# Altium schematic symbol library ARDUINO.SchLib: 5 symbols
Pins are listed as number, name and electrical type; pins without a type are passive.

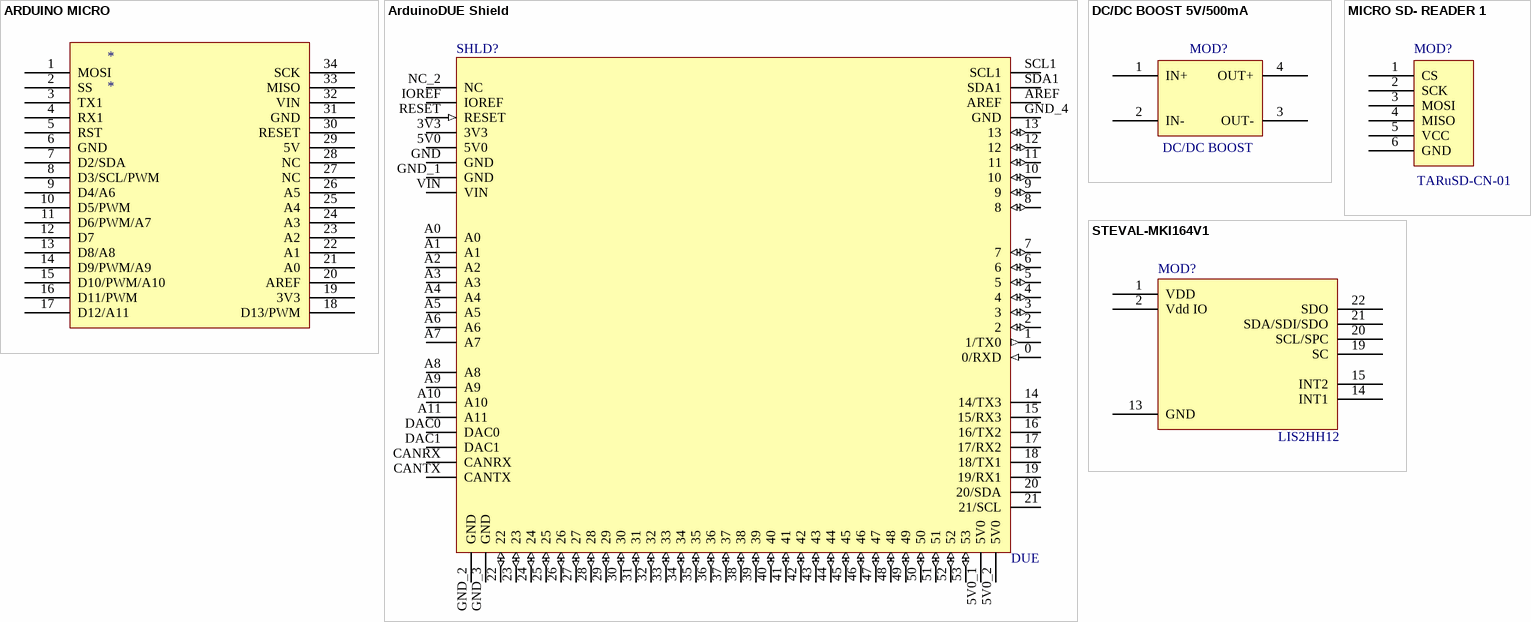
[diagram p0: symbols ARDUINO MICRO to STEVAL-MKI164V1]

## ARDUINO MICRO
designator *
Manufacturer: STMicroelectronics; Manufacturer Part Number: STEVAL-MKI164V1; Evaluation Kit: Yes; Interface: I2C,SPI; Sensor Type: Accelerometer,3 Axis; RoHS: Yes; Package Quantity: 1; Lead Free: Lead Free; ComponentLink1URL: http://www.st.com/st-web-ui/static/active/en/resource/technical/document/data_brief/DM00164463.pdf?src-supplier=Avnet; ComponentLink1Description: http://www.st.com/st-web-ui/static/active/en/resource/technical/document/data_brief/DM00164463.pdf?src-supplier=Avnet; ComponentLink2URL: http://www.st.com/st-web-ui/static/active/en/resource/technical/document/data_brief/DM00164463.pdf?src-supplier=Avnet+Asia; ComponentLink2Description: http://www.st.com/st-web-ui/static/active/en/resource/technical/document/data_brief/DM00164463.pdf?src-supplier=Avnet+Asia; ComponentLink3URL: http://www.st.com/content/ccc/resource/technical/document/datasheet/c9/16/f2/79/ca/31/47/89/DM00096789.pdf/files/DM00096789.pdf/jcr:content/translations/en.DM00096789.pdf?src-supplier=Digi-Key; ComponentLink3Description: http://www.st.com/content/ccc/resource/technical/document/datasheet/c9/16/f2/79/ca/31/47/89/DM00096789.pdf/files/DM00096789.pdf/jcr:content/translations/en.DM00096789.pdf?src-supplier=Digi-Key
footprint Arduino MICRO
pins: 1 MOSI, 2 SS, 3 TX1, 4 RX1, 5 RST, 6 GND, 7 D2/SDA, 8 D3/SCL/PWM, 9 D4/A6, 10 D5/PWM, 11 D6/PWM/A7, 12 D7, 13 D8/A8, 14 D9/PWM/A9, 15 D10/PWM/A10, 16 D11/PWM, 17 D12/A11, 18 D13/PWM, 19 3V3, 20 AREF, 21 A0, 22 A1, 23 A2, 24 A3, 25 A4, 26 A5, 27 NC, 28 NC, 29 5V, 30 RESET, 31 GND, 32 VIN, 33 MISO, 34 SCK

## ArduinoDUE Shield
designator SHLD?, comment DUE
footprint ARDUINO_DUE_SHIELD
pins: 0 0/RXD (in), 1 1/TX0 (out), 2 (io), 3 (io), 3V3, 4 (io), 5 (io), 5V0, 5V0_1 5V0, 5V0_2 5V0, 6 (io), 7 (io), 8 (io), 9 (io), 10 (io), 11 (io), 12 (io), 13 (io), 14 14/TX3, 15 15/RX3, 16 16/TX2, 17 17/RX2, 18 18/TX1, 19 19/RX1, 20 20/SDA, 21 21/SCL, 22 (io), 23 (io), 24 (io), 25 (io), 26 (io), 27 (io), 28 (io), 29 (io), 30 (io), 31 (io), 32 (io), 33 (io), 34 (io), 35 (io), 36 (io), 37 (io), 38 (io), 39 (io), 40 (io), 41 (io), 42 (io), 43 (io), 44 (io), 45 (io), 46 (io), 47 (io), 48 (io), 49 (io), 50 (io), 51 (io), 52 (io), 53 (io), A0, A1, A2, A3, A4, A5, A6, A7, A8, A9, A10, A11, AREF, CANRX, CANTX, DAC0, DAC1, GND, GND_1 GND, GND_2 GND, GND_3 GND, GND_4 GND, IOREF, NC_2 NC, RESET (in), SCL1, SDA1, VIN

## DC/DC BOOST 5V/500mA
designator MOD?, comment DC/DC BOOST
Conversor DC/DC Elevador 5V 500mAh
footprint DC/DC BOOST 5V/500mA
pins: 1 IN+, 2 IN-, 3 OUT-, 4 OUT+

## MICRO SD- READER 1
designator MOD?, comment TARuSD-CN-01
Adaptador para conectores de tarjetas uSD, tiene todos los pines disponibles
footprint MICRO SD READER
footprint MICRO SD READER 2
pins: 1 CS, 2 SCK, 3 MOSI, 4 MISO, 5 VCC, 6 GND

## STEVAL-MKI164V1
designator MOD?, comment LIS2HH12
LIS2HH12 MEMS Digital Output Motion Sensor Adapter Board; Manufacturer: STMicroelectronics; Manufacturer Part Number: STEVAL-MKI164V1; Evaluation Kit: Yes; Interface: I2C,SPI; Sensor Type: Accelerometer,3 Axis; Supplier 1: Digi-Key; Stock 1: 9; Pricing 1: 1 = 17,96000 (USD); RoHS: Yes; Package Quantity: 1; Lead Free: Lead Free; ComponentLink1URL: http://www.st.com/st-web-ui/static/active/en/resource/technical/document/data_brief/DM00164463.pdf?src-supplier=Avnet; ComponentLink1Description: http://www.st.com/st-web-ui/static/active/en/resource/technical/document/data_brief/DM00164463.pdf?src-supplier=Avnet; ComponentLink2URL: http://www.st.com/st-web-ui/static/active/en/resource/technical/document/data_brief/DM00164463.pdf?src-supplier=Avnet+Asia; ComponentLink2Description: http://www.st.com/st-web-ui/static/active/en/resource/technical/document/data_brief/DM00164463.pdf?src-supplier=Avnet+Asia; ComponentLink3URL: http://www.st.com/content/ccc/resource/technical/document/datasheet/c9/16/f2/79/ca/31/47/89/DM00096789.pdf/files/DM00096789.pdf/jcr:content/translations/en.DM00096789.pdf?src-supplier=Digi-Key; ComponentLink3Description: http://www.st.com/content/ccc/resource/technical/document/datasheet/c9/16/f2/79/ca/31/47/89/DM00096789.pdf/files/DM00096789.pdf/jcr:content/translations/en.DM00096789.pdf?src-supplier=Digi-Key; Supplier Part Number 1: 497-15603-ND
footprint MODULO LIS2HH12 (ADAPTER BOARD LIS2HH12 DIL24)
pins: 1 VDD, 2 Vdd IO, 13 GND, 14 INT1, 15 INT2, 19 SC, 20 SCL/SPC, 21 SDA/SDI/SDO, 22 SDO